# Altium schematic symbol library LED.SchLib: 6 symbols
Pins are listed as number, name and electrical type; pins without a type are passive.

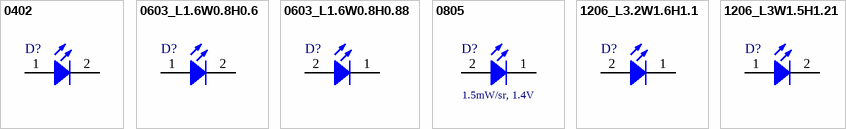
[diagram p0: symbols 0402 to 1206_L3W1.5H1.21]

## 0402
designator D?
WL-SICW SMT Chip LED Infrared Waterclear, size 0402; Manufacturer Part Number: 15404085BA420; Manufacturer: Wurth Elektronik; Radiant Intensity typ.: 6mW/sr; Chip Technology: AlGaAs; Forward Voltage typ.: 1.6V; Forward Voltage max.: 2V; Centroid Wavelength typ.: 845nm; Peak Wavelength typ.: 850nm; Radiant Intensity min.: 3mW/sr; Viewing Angle: 140deg; ComponentLink1Description: Manufacturer; ComponentLink1URL: http://www.we-online.de; ComponentLink2URL: https://www.we-online.com/catalog/datasheet/15404085BA420.pdf; ComponentLink2Description: Datasheet; Emitting Color: Infrared; Mounting Technology: SMT; Operating Temperature: -40 to +85degC; Published Date: August 2020; Packaging: Tape and Reel; Size: 0402
footprint WL-SICW_0402_L1W0.5H0.5
pins: 1 A, 2 K

## 0603_L1.6W0.8H0.6
designator D?
WL-SICW SMT Chip LED Infrared Waterclear, size 0603; Manufacturer Part Number: 15406085BA300; Manufacturer: Wurth Elektronik; Radiant Intensity typ.: 2mW/sr; Chip Technology: AlGaAs; Forward Voltage typ.: 1.4V; Forward Voltage max.: 2V; Centroid Wavelength typ.: 845nm; Peak Wavelength typ.: 850nm; Radiant Intensity min.: 1mW/sr; Viewing Angle: 130deg; ComponentLink1Description: Manufacturer; ComponentLink1URL: http://www.we-online.de; ComponentLink2URL: https://www.we-online.com/catalog/datasheet/15406085BA300.pdf; ComponentLink2Description: Datasheet; Emitting Color: Infrared; Mounting Technology: SMT; Operating Temperature: -40 to +85degC; Published Date: August 2020; Packaging: Tape and Reel; Size: 0603
footprint 0603_L1.6W0.8H0.6 (SMD Infrared Chip LED Waterclear, body 1.6x0.8mm)
pins: 1 A, 2 K

## 0603_L1.6W0.8H0.88
designator D?
WL-SICW SMT Chip LED Infrared Waterclear, size 0603; Manufacturer Part Number: 15406085BA400A; Manufacturer: Wurth Elektronik; Radiant Intensity typ.: 1.2mW/sr; Chip Technology: AlGaAs; Forward Voltage typ.: 1.4V; Forward Voltage max.: 2V; Centroid Wavelength typ.: 845nm; Peak Wavelength typ.: 850nm; Radiant Intensity min.: 0.5mW/sr; Viewing Angle: 140deg; ComponentLink1Description: Manufacturer; ComponentLink1URL: http://www.we-online.de; ComponentLink2URL: https://www.we-online.com/catalog/datasheet/15406085BA400A.pdf; ComponentLink2Description: Datasheet; Emitting Color: Infrared; Mounting Technology: SMT; Operating Temperature: -40 to +85degC; Published Date: August 2020; Packaging: Tape and Reel; Size: 0603
footprint 0603_L1.6W0.8H0.88 (Footprint not found)
pins: 1 K, 2 A

## 0805
designator D?, comment 1.5mW/sr, 1.4V
WL-SICW SMT Chip LED Infrared Waterclear, size 0805, 1.5mW/sr, 1.4V; Manufacturer Part Number: 15408085BA400; Manufacturer: Wurth Elektronik; Chip Technology: AlGaAs; Forward Voltage max.: 2V; Centroid Wavelength typ.: 845nm; Peak Wavelength typ.: 850nm; Radiant Intensity min.: 0.6mW/sr; Viewing Angle: 140deg; Radiant Intensity typ.: 1.5mW/sr; ComponentLink1Description: Manufacturer; ComponentLink1URL: http://www.we-online.de; ComponentLink2URL: https://www.we-online.com/catalog/datasheet/15408085BA400.pdf; ComponentLink2Description: Datasheet; Emitting Color: Infrared; Forward Voltage typ.: 1.4V; Mounting Technology: SMT; Operating Temperature: -40 to +85degC; Published Date: August 2020; Packaging: Tape and Reel; Size: 0805
footprint 0805_L2W1.3H0.8 (SMT Infrared Chip LED Waterclear, body 2x1.3mm)
pins: 1 K, 2 A

## 1206_L3.2W1.6H1.1
designator D?
WL-SICW SMT Chip LED Infrared Waterclear, size 1206; Manufacturer Part Number: 15412085BA400; Manufacturer: Wurth Elektronik; Radiant Intensity typ.: 2.5mW/sr; Chip Technology: AlGaAs; Forward Voltage typ.: 1.4V; Forward Voltage max.: 2V; Centroid Wavelength typ.: 850nm; Radiant Intensity min.: 1mW/sr; Viewing Angle: 140deg; ComponentLink1Description: Manufacturer; ComponentLink1URL: http://www.we-online.de; ComponentLink2URL: https://www.we-online.com/catalog/datasheet/15412085BA400.pdf; ComponentLink2Description: Datasheet; Emitting Color: Infrared; Mounting Technology: SMT; Operating Temperature: -40 to +85degC; Published Date: August 2020; Packaging: Tape and Reel; Peak Wavelength typ.: 850nm; Size: 1206
footprint 1206_L3.2W1.6H1.1 (SMT Infrared Chip LED Waterclear, body 3x1.6mm)
pins: 1 K, 2 A

## 1206_L3W1.5H1.21
designator D?
WL-SICW SMT Chip LED Infrared Waterclear, size 1206; Manufacturer Part Number: 15412085A9000; Manufacturer: Wurth Elektronik; Radiant Intensity typ.: 5mW/sr; Chip Technology: AlGaAs; Forward Voltage typ.: 1.4V; Forward Voltage max.: 2V; Centroid Wavelength typ.: 845nm; Peak Wavelength typ.: 850nm; Radiant Intensity min.: 3mW/sr; Viewing Angle: 90deg; ComponentLink1Description: Manufacturer; ComponentLink1URL: http://www.we-online.de; ComponentLink2URL: https://www.we-online.com/catalog/datasheet/15412085A9000.pdf; ComponentLink2Description: Datasheet; Emitting Color: Infrared; Mounting Technology: SMT; Operating Temperature: -40 to +85degC; Published Date: August 2020; Packaging: Tape and Reel; Size: 1206
footprint 1206_L3W1.5H1.21 (SMT Infrared Chip LED Waterclear, body 3x1.5mm)
pins: 1 A, 2 K